# Altium integrated library eBox_relay.IntLib: 14 symbols
Pins are listed as number, name and electrical type; pins without a type are passive.

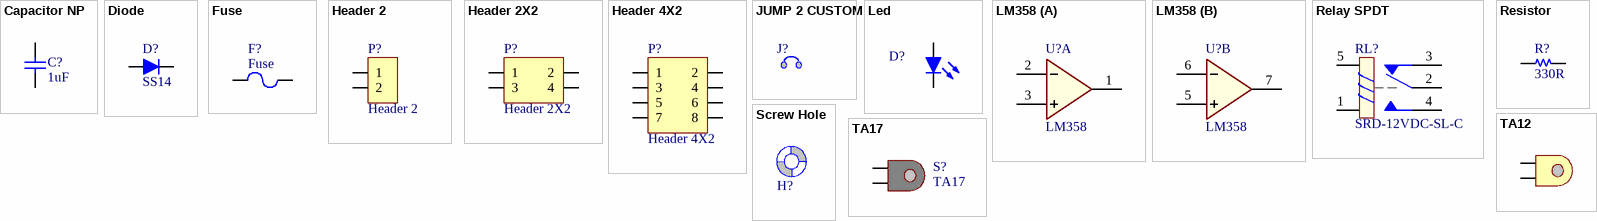
[diagram p0: symbols Capacitor NP to TA17]

## Capacitor NP
designator C?, comment 1uF
Capacitor non-pol
footprint C 0402 (Chip Capacitor, 2-Leads, Body 1.0x0.5mm, IPC Medium Density)
footprint C 0603 (Chip Capacitor, 2-Leads, Body 1.6x0.8mm, IPC Medium Density)
footprint C 0805 (Chip Capacitor, 2-Leads, Body 2.0x1.3mm, IPC Medium Density)
footprint CAP Ceramic/W550
footprint CAP Ceramic/W200
footprint CAP Ceramic/W300
footprint CC 0402 (Chip Capacitor, 2-Leads, Body 1.0x0.5mm, IPC Medium Density)
footprint C 1210
footprint C 1206
footprint CAP Ceramic/D7.0/F7.5
footprint C 0402 (1005)
pins: 1, 2

## Diode
designator D?, comment SS14
DIODE SCHOTTKY 40V 1A SMA; BRAND: Toshiba; TYPE: SMD; PACKAGE: DO-214AC; PART NO: SS14; STOCK CODE: SS14; SUPPLIER: tme.vn; STOCK DESC: 1A 40V Schottky Barrier Diode; UNIT PRICE: 1000
footprint DO-214AC (SMA) (Molded Diode, 2-Leads, Body 4.3x2.7mm, IPC Medium Density)
footprint DO-41
footprint DO-214AB (SMC) (Molded Diode, 2-Leads, Body 7.9x5.8mm, IPC Low Density)
footprint DO-27
footprint Diode SOD80C Reflow
footprint Diode SOD80C Wave
footprint Diode SOD-123
footprint DO-35 (SOD27 )
footprint DO-214AC (SMA) L (Molded Diode, 2-Leads, Body 4.3x2.7mm, IPC Medium Density)
footprint Diode PowerDI123
footprint DO-214AA (SMB) L
pins: 1 A, 2 K

## Fuse
designator F?
UNIT PRICE: 0
footprint Fuse 1812P050 (Fuse 1812P050, 2-Leads, Body 4.5x3.2mm, IPC Medium Density)
footprint FUSE 4 DIP
footprint FUSE 2 DIP - KSD 9700
footprint FUSE 4 DIP 0520 (5mm x 20mm)
footprint FUSE 4 DIP 0520 BOX (5mm x 20mm)
footprint FUSE 2 DIP 0520 BOX (5mm x 20mm)
pins: 1, 2

## Header 2
designator P?
Header, 2-Pin; UNIT PRICE: 0
footprint HDR/Header/2
footprint HDR/Header/2/2mm
footprint HDR/Header/2/BOX
footprint HDR/Terminal/2 (Header 2, 2 pin, hight 400mil, Pin to Pin 200mil, Colour Green)
footprint HDR/Terminal/2/4mm
footprint HDR/Terminal/2/5mm (Header 2, 2 pin, hight 400mil, Pin to Pin 200mil, Colour Green)
footprint HDR/Terminal/2/5mm/RA (Header 2, 2 pin, hight 300mil, Pin to Pin 200, Colour Green)
footprint HDR/Terminal/2/9.5MM/ELT950 (ELT950-9.5mm-2P)
footprint HDR/Terminal/2/300
footprint HDR/Terminal/2/400
footprint HDR/Terminal/2/RA (Header 2, 2 pin, hight 300mil, Pin to Pin 200, Colour Green)
footprint HDR/Terminal/2/3.5mm
footprint HDR/Header/2/VH
footprint HDR/Terminal/2/10mm
pins: 1, 2

## Header 2X2
designator P?
Header, 2-Pin, Dual row
footprint HDR/Header/4/DL
footprint HDR/5569-4.2/4/DL/RA (Header 6, 6 pin, hight 300mil, Pin to Pin 200, Colour Green)
pins: 1, 2, 3, 4

## Header 4X2
designator P?
Header, 4-Pin, Dual row
footprint HDR/Header/8/DL
footprint HDR/Header/8/DL/SMD
footprint HDR/5569-4.2/8/DL/RA (Header 6, 6 pin, hight 300mil, Pin to Pin 200, Colour Green)
pins: 1, 2, 3, 4, 5, 6, 7, 8

## JUMP 2 CUSTOM
designator J?  (value not drawn)  (no BOM)
TYPE: NO-BOM; UNIT PRICE: 0
footprint JUMP/2/Custom
pins: 1, 2

## Led
designator D?  (value not drawn)
LED RED CLEAR 0805 SMD; PACKAGE: SMD0805; STOCK CODE: HT17-2102SURC; SUPPLIER: tme.vn; TYPE: SMD; STOCK DESC: SMD-0805 High Bright Red Chip LED; UNIT PRICE: 800
footprint Led 0805 (Led SMD 0805)
footprint Led 0603 - green (Led SMD 0603)
footprint Led 0603 - orange (Led SMD 0603)
footprint Led 0603 - red (Led SMD 0603)
footprint Led 0603 - yellow (Led SMD 0603)
footprint Led 0603 (Led SMD 0603)
footprint LED 3MM - green
footprint LED 3MM - red
footprint LED 5MM - GREEN
footprint LED 5MM - RED
footprint LED 5MM - WHITE
footprint Led 0805 Blue (Led SMD 0805)
footprint Led 0805 Green (Led SMD 0805)
footprint Led 0805 RED (Led SMD 0805)
footprint LED 3MM - blue
footprint LED 3MM - yellow
pins: 1 A, 2 K

## LM358
designator U?
Low Power Dual Operational Amplifiers
footprint DIP 8 (DIP IC (2.54mm), 8 pins)
footprint SOIC-8 (SOIC, 8-Leads, Body 5.0x4.0mm (max), Pitch 1.27mm, IPC Medium Density)
part A pins: 1 OutA, 2 A-, 3 A+, 4 GND hidden to GND, 8 VCC hidden to VCC
part B pins: 5 B+, 6 B-, 7 OutB

## Relay SPDT
designator RL?, comment SRD-12VDC-SL-C
RELAY GEN PURPOSE SPDT 10A 12V; BRAND: SONGLE; PART NO: SRD-12VDC-SL-C; STOCK CODE: SRD-12VDC-SL-C; SUPPLIER: tme.vn; TYPE: TH; STOCK DESC: Relay SRD-12VDC-SL-C; UNIT PRICE: 10000
footprint RL_SPDT_10A (Relay SPDT, 5 pin, 10A,W 650mil, L 800mil, H 800mil)
pins: 1 COIL1, 2 NO, 3 NC, 4 COM, 5 COIL2

## Resistor
designator R?, comment 330R
RES SMD 680 OHM 1% 1/10W 0805; PACKAGE: SMD0805; STOCK CODE: RM10JTN681; SUPPLIER: tme.vn; TYPE: SMD; STOCK DESC: 680R 5% SMD-0805 Resistor; UNIT PRICE: 60
footprint R 1W (Through hole resitor, axial 600mils, 1W)
footprint R 5W
footprint R 0402 (Chip Resistor, 2-Leads, Body 1.0x0.5mm, IPC Medium Density)
footprint R 0603 (Chip Resistor, 2-Leads, Body 1.6x0.8mm, IPC Medium Density)
footprint R 0805 (Chip Resistor, 2-Leads, Body 2.0x1.3mm, IPC Medium Density)
footprint R 1206 (Chip Resistor, 2-Leads, Body 3.1x1.6mm, IPC Medium Density)
footprint R 1210 (Chip Resistor, 2-Leads, Body 3.2x2.5mm, IPC Medium Density)
footprint R 1812 (Chip Resistor, 2-Leads, Body 4.5x3.2mm, IPC Medium Density)
footprint R 2010 (Chip Resistor, 2-Leads, Body 5.0x2.5mm, IPC Medium Density)
footprint R 2512 (Chip Resistor, 2-Leads, Body 6.4x3.2mm, IPC Medium Density)
footprint R 1/2W/630 (Through hole resitor, axial 600mils, 1W)
footprint R 1/4W/300 (Through hole resitor, axial 300mils, 1/4W)
footprint R 1W/500 (Through hole resitor, axial 500mils, 1W)
footprint RR 0402 (Chip Capacitor, 2-Leads, Body 1.0x0.5mm, IPC Medium Density)
footprint RES_1W_V (PANASONIC)
pins: 1, 2

## Screw Hole
designator H?  (value not drawn)  (no BOM)
TYPE: NO-BOM; UNIT PRICE: 0
footprint SCREW/3.2/7.0/M
footprint SCREW/3.0/6.0
footprint SCREW/2.8/5.0
pins: 1 Screw

## TA12
designator S?, comment NA  (value not drawn)
CURR SENSE 1:2000 5A T/H; PART NO: TA12-200; BRAND: YHDC; SUPPLIER: CHINA; TYPE: TH; UNIT PRICE: 22328
footprint TA12
pins: 1, 2

## TA17
designator S?
footprint TA17
pins: 1, 2